# Altium footprint library SumWkshop.PcbLib: 3 footprints
Each footprint in its own frame and in the unit in brackets; x right, y up, seen from the top. Pads: shape width x height; smd on the part's side, far side on the other; paste and mask are expansions set on the pad; w line width, h text height; cw(c..) or ccw(c..) is an arc to the next point about the centre after c.
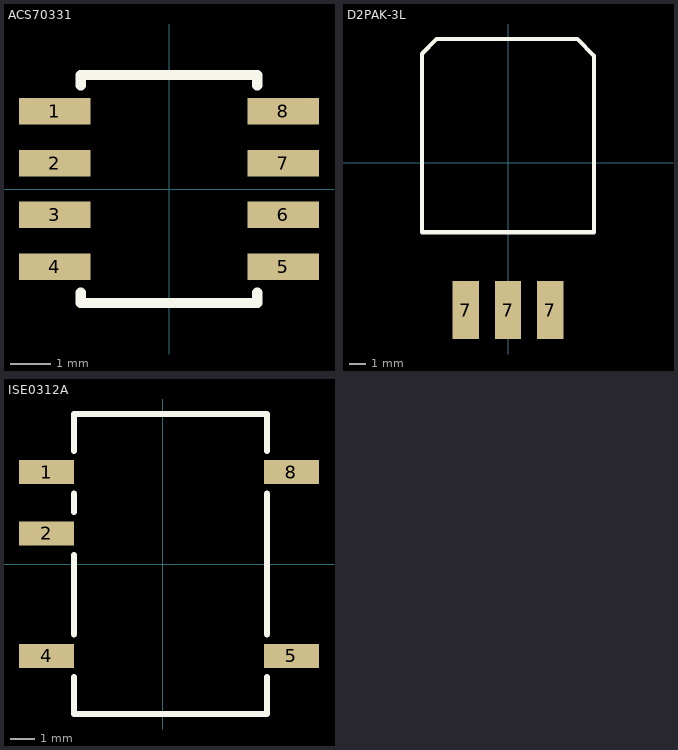
[diagram p0: the footprints below, top view; thin cyan lines are the x and y axes]

## ACS70331 [mil] "8-SOIC model; 8 leads"
pads (8):
  rect 68.9x25.6 smd: 1(-110.24,75) 2(-110.24,25) 3(-110.24,-25) 4(-110.24,-75) 5(110.24,-75) 6(110.24,-25) 7(110.24,25) 8(110.24,75)
Top Overlay:
  lines w10: -85,-100 -85,-110 85,-110 85,-100 ; -85,100 -85,110 85,110 85,100
3D body "Allegro-OL-8-Package.STEP": height 61.75, standoff -1.25, extent -118.01,-96.64 118.21,96.27

## D2PAK-3L [mil]
pads (3):
  rect 63x137.8 smd: 7(-100,-350) 7(0,-350) 7(100,-350)
Top Overlay:
  lines w10: -205,-165 205,-165 205,255 165,295 -170,295 -205,260 -205,-165
3D body "D2PAK-3.step": height 200, standoff 0, extent -190,-399.99 190,279.17

## ISE0312A [mil] "8-SMD model; 5 leads"
height 287
pads (5):
  rect 90x39 smd: 1(-190,150) 2(-190,50) 4(-190,-150) 5(210,-150) 8(210,150)
Top Overlay:
  lines w10: -145,-185 -145,-245 170,-245 170,-185 ; -145,-115 -145,15 ; -145,85 -145,115 ; -145,185 -145,245 170,245 170,185 ; 170,-115 170,115
3D body "ISE.STEP": height 285.01, standoff -0.43, extent -210.47,-250 230.47,250